# Altium footprint library PIEZO_20mm.PcbLib: 1 footprints
Each footprint in its own frame and in the unit in brackets; x right, y up, seen from the top. Pads: shape width x height; smd on the part's side, far side on the other; paste and mask are expansions set on the pad; w line width, h text height; cw(c..) or ccw(c..) is an arc to the next point about the centre after c.
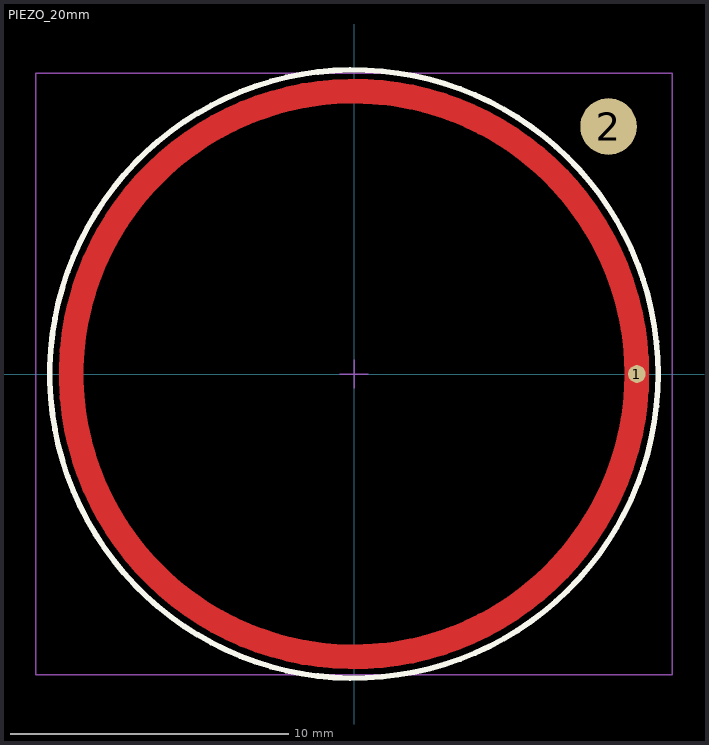
[diagram p0: the footprint, top view; thin cyan lines are the x and y axes]

## PIEZO_20mm [mil]
pads (2):
  round 25 smd: 1(400,0)
  round 80 smd: 2(360,350)
Top Layer:
  circle w35: c0,0 r400
Top Overlay:
  circle w7.87: c0,0 r430.17
Mechanical 15:
  lines w1.97: -20,0 20,0 ; 0,-20 0,20 ; -450,-425 -450,425 450,425 450,-425 -450,-425
3D body "ab2065b.stp": height 16.54, standoff 0, extent -393.7,-392.4 393.7,395